# Altium footprint library ATK-2014-09-12.PcbLib: 439 footprints (part 12 of 28)
Each footprint in its own frame and in the unit in brackets; x right, y up, seen from the top. Pads: shape width x height; smd on the part's side, far side on the other; paste and mask are expansions set on the pad; w line width, h text height; cw(c..) or ccw(c..) is an arc to the next point about the centre after c.
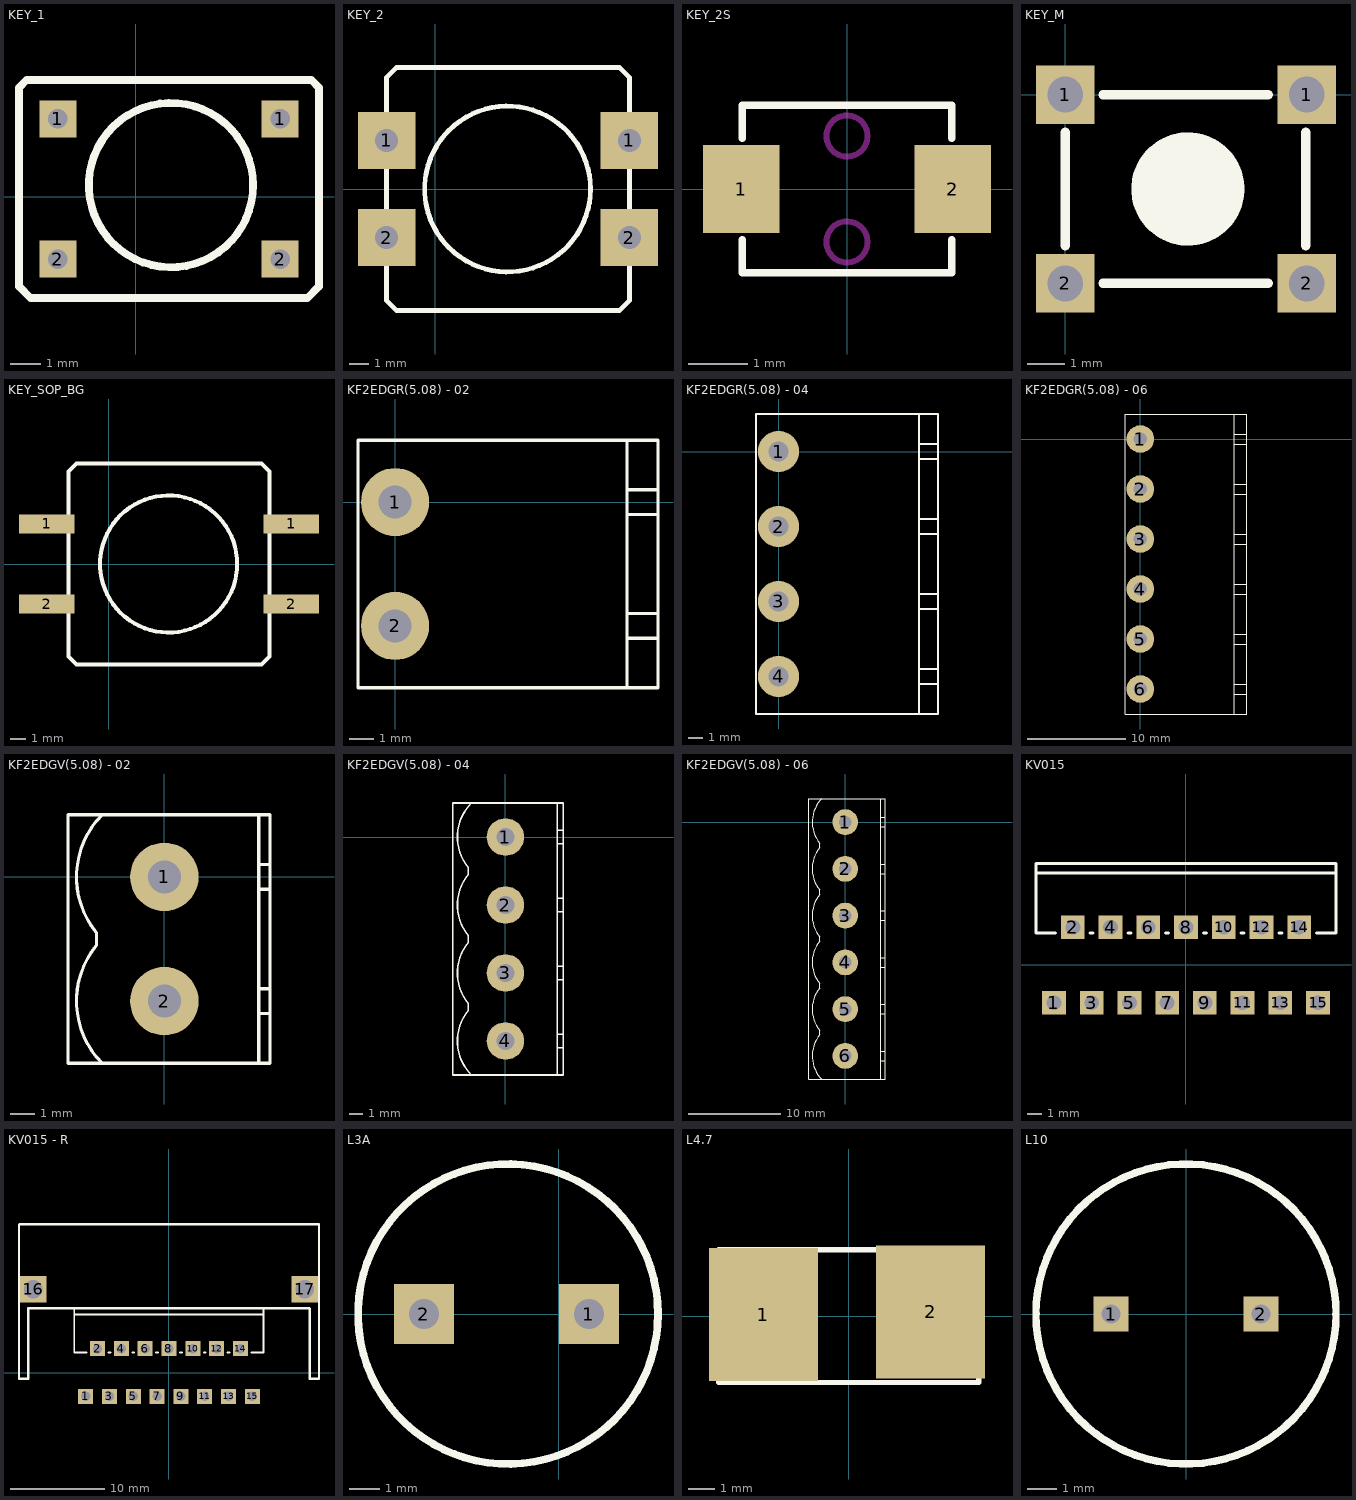
[diagram p11: the footprints below, top view; thin cyan lines are the x and y axes]

## KEY_1 [mm] "KEY?"
height 5
pads (4):
  rect 1.2x1.2 hole 0.635: 1(-2.54,2.54) 1(4.699,2.54) 2(-2.54,-2.032) 2(4.699,-2.032)
Top Overlay:
  circle w0.254: c1.143,0.381 r2.679
  lines w0.254: -3.81,3.048 -3.81,3.556 -3.556,3.81 ; -3.81,3.302 -3.81,-2.921 -3.429,-3.302 5.588,-3.302 5.969,-2.921 5.969,3.556 5.715,3.81 -3.556,3.81 ; -2.921,3.81 -3.556,3.81

## KEY_2 [mm] "KEY?"
pads (4):
  rect 3x3 hole 1.2: 1(-2.54,2.54) 1(10.16,2.54) 2(-2.54,-2.54) 2(10.16,-2.54)
Top Overlay:
  circle w0.254: c3.788,0 r4.34
  lines w0.254: 7.747,6.35 9.652,6.35 10.16,5.842 10.16,-5.842 9.652,-6.35 -2.032,-6.35 -2.54,-5.842 -2.54,5.842 -2.032,6.35 0.127,6.35 8.509,6.35

## KEY_2S [mm]
pads (2):
  rect 1.3x1.5 smd: 1(-1.8,0) 2(1.8,0)
Top Overlay:
  lines w0.127: -1.778,-0.864 -1.778,-1.422 1.778,-1.422 1.778,-0.864 ; -1.778,0.864 -1.778,1.422 1.778,1.422 1.778,0.864
Keep-Out Layer:
  circle w0.1: c0,0.9 r0.35
  circle w0.1: c0,-0.9 r0.35

## KEY_M [mil] "KEY_MID"
pads (4):
  rect 62x62 hole 38: 1(0,0) 1(255.91,0) 2(0,-200) 2(255.91,-200)
Top Overlay:
  circle w60: c130,-100 r30
  lines w10: -0.03,-160 -0.03,-40 ; 39.97,-200 215,-200 ; 39.97,0 215,0 ; 255,-160 255,-40

## KEY_SOP_BG [mm] "KEY?"
height 5
pads (4):
  rect 3.5x1.2 smd: 1(-3.937,2.54) 1(11.557,2.54) 2(-3.937,-2.54) 2(11.557,-2.54)
Top Overlay:
  circle w0.254: c3.788,0 r4.34
  lines w0.254: 7.747,6.35 9.652,6.35 10.16,5.842 10.16,-5.842 9.652,-6.35 -2.032,-6.35 -2.54,-5.842 -2.54,5.842 -2.032,6.35 0.127,6.35 8.509,6.35

## KF2EDGR(5.08) - 02 [mm] "拔插接线端子   卧式"
pads (2):
  round 2.8 hole 1.35: 1(0,0) 2(0,-5.08)
Top Overlay:
  lines w0.127: 9.525,-7.62 9.525,2.54 ; 9.525,-5.588 10.795,-5.588 ; 9.525,-4.572 10.795,-4.572 ; 9.525,-0.508 10.795,-0.508 ; 9.525,0.508 10.795,0.508 ; -1.524,-7.62 10.795,-7.62 10.795,2.54 -1.524,2.54 -1.524,-7.62

## KF2EDGR(5.08) - 04 [mm] "拔插接线端子   卧式"
pads (4):
  round 2.8 hole 1.35: 1(0,0) 2(0,-5.08) 3(0,-10.16) 4(0,-15.24)
Top Overlay:
  lines w0.127: 9.525,-17.78 9.525,2.54 ; 9.525,-15.748 10.795,-15.748 ; 9.525,-14.732 10.795,-14.732 ; 9.525,-10.668 10.795,-10.668 ; 9.525,-9.652 10.795,-9.652 ; 9.525,-5.588 10.795,-5.588 ; 9.525,-4.572 10.795,-4.572 ; 9.525,-0.508 10.795,-0.508 ; 9.525,0.508 10.795,0.508 ; -1.524,-17.78 10.795,-17.78 10.795,2.54 -1.524,2.54 -1.524,-17.78

## KF2EDGR(5.08) - 06 [mm] "拔插接线端子   卧式"
pads (6):
  round 2.8 hole 1.35: 1(0,0) 2(0,-5.08) 3(0,-10.16) 4(0,-15.24) 5(0,-20.32) 6(0,-25.4)
Top Overlay:
  lines w0.127: 9.525,-27.94 9.525,2.54 ; 9.525,-25.908 10.795,-25.908 ; 9.525,-24.892 10.795,-24.892 ; 9.525,-20.828 10.795,-20.828 ; 9.525,-19.812 10.795,-19.812 ; 9.525,-15.748 10.795,-15.748 ; 9.525,-14.732 10.795,-14.732 ; 9.525,-10.668 10.795,-10.668 ; 9.525,-9.652 10.795,-9.652 ; 9.525,-5.588 10.795,-5.588 ; 9.525,-4.572 10.795,-4.572 ; 9.525,-0.508 10.795,-0.508 ; 9.525,0.508 10.795,0.508 ; -1.524,-27.94 10.795,-27.94 10.795,2.54 -1.524,2.54 -1.524,-27.94

## KF2EDGV(5.08) - 02 [mm] "拔插接线端子   立式"
pads (2):
  round 2.8 hole 1.35: 1(0,0) 2(0,-5.08)
Top Overlay:
  lines w0.127: -2.54,-7.62 cw(c0,-5.08) -2.78,-2.805 -2.78,-2.275 cw(c0,0) -2.54,2.54 ; 3.861,-7.62 3.861,2.54 4.318,2.54 4.318,-7.62 -3.937,-7.62 -3.937,2.54 3.937,2.54 ; 3.861,-5.588 4.318,-5.588 ; 3.861,-4.572 4.318,-4.572 ; 3.861,-0.508 4.318,-0.508 ; 3.861,0.508 4.318,0.508

## KF2EDGV(5.08) - 04 [mm] "拔插接线端子   立式"
pads (4):
  round 2.8 hole 1.35: 1(0,0) 2(0,-5.08) 3(0,-10.16) 4(0,-15.24)
Top Overlay:
  lines w0.127: -2.54,-17.78 cw(c0,-15.24) -2.78,-12.965 -2.78,-12.435 cw(c0,-10.16) -2.78,-7.885 -2.78,-7.355 cw(c0,-5.08) -2.78,-2.805 -2.78,-2.275 cw(c0,0) -2.54,2.54 ; 3.861,-17.729 3.861,2.54 4.318,2.54 4.318,-17.78 -3.937,-17.78 -3.937,2.54 3.937,2.54 ; 3.861,-15.748 4.318,-15.748 ; 3.861,-14.732 4.318,-14.732 ; 3.861,-10.668 4.318,-10.668 ; 3.861,-9.652 4.318,-9.652 ; 3.861,-5.588 4.318,-5.588 ; 3.861,-4.572 4.318,-4.572 ; 3.861,-0.508 4.318,-0.508 ; 3.861,0.508 4.318,0.508

## KF2EDGV(5.08) - 06 [mm] "拔插接线端子   立式"
pads (6):
  round 2.8 hole 1.35: 1(0,0) 2(0,-5.08) 3(0,-10.16) 4(0,-15.24) 5(0,-20.32) 6(0,-25.4)
Top Overlay:
  lines w0.127: -2.54,-27.94 cw(c0,-25.4) -2.78,-23.125 -2.78,-22.595 cw(c0,-20.32) -2.78,-18.045 -2.78,-17.515 cw(c0,-15.24) -2.78,-12.965 -2.78,-12.435 cw(c0,-10.16) -2.78,-7.885 -2.78,-7.355 cw(c0,-5.08) -2.78,-2.805 -2.78,-2.275 cw(c0,0) -2.54,2.54 ; 3.861,-25.908 4.318,-25.908 ; 3.861,-24.892 4.318,-24.892 ; 3.861,-20.828 4.318,-20.828 ; 3.861,-19.812 4.318,-19.812 ; 3.861,-15.748 4.318,-15.748 ; 3.861,-14.732 4.318,-14.732 ; 3.861,-10.668 4.318,-10.668 ; 3.861,-9.652 4.318,-9.652 ; 3.861,-5.588 4.318,-5.588 ; 3.861,-4.572 4.318,-4.572 ; 3.861,-0.508 4.318,-0.508 ; 3.861,0.508 4.318,0.508 ; 3.937,-27.94 -3.937,-27.94 -3.937,2.54 3.937,2.54 ; 3.861,-27.94 4.318,-27.94 4.318,2.54 3.861,2.54 3.861,-27.94

## KV015 [mm] "TO, Thru-Hole, Vertical, Heatsink Mounted; 15 Bent Staggered Leads; Pitch 1.27 mm"
height 21
pads (15):
  rect 1.6x1.6 hole 1: 1(-8.89,-2.54) 2(-7.62,2.54) 3(-6.35,-2.54) 4(-5.08,2.54) 5(-3.81,-2.54) 6(-2.54,2.54) 7(-1.27,-2.54) 8(0,2.54) 9(1.27,-2.54) 10(2.54,2.54) 11(3.81,-2.54) 12(5.08,2.54) 13(6.35,-2.54) 14(7.62,2.54) 15(8.89,-2.54)
Top Overlay:
  lines w0.2: -10.1,6.19 10.1,6.19 ; -8.8,2.14 -10.1,2.14 -10.1,6.84 10.1,6.84 10.1,2.14 8.8,2.14 ; -6.45,2.14 -6.25,2.14 ; -3.91,2.14 -3.71,2.14 ; -1.37,2.14 -1.17,2.14 ; 1.17,2.14 1.37,2.14 ; 3.71,2.14 3.91,2.14 ; 6.25,2.14 6.45,2.14

## KV015 - R [mm] "TO, Thru-Hole, Vertical, Heatsink Mounted; 15 Bent Staggered Leads; Pitch 1.27 mm"
height 21
pads (17):
  rect 1.6x1.6 hole 1: 1(-8.89,-2.54) 2(-7.62,2.54) 3(-6.35,-2.54) 4(-5.08,2.54) 5(-3.81,-2.54) 6(-2.54,2.54) 7(-1.27,-2.54) 8(0,2.54) 9(1.27,-2.54) 10(2.54,2.54) 11(3.81,-2.54) 12(5.08,2.54) 13(6.35,-2.54) 14(7.62,2.54) 15(8.89,-2.54)
  rect 2.8x2.8 hole 2: 16(-14.478,8.89) 17(14.478,8.89)
Top Overlay:
  lines w0.2: -10.1,6.19 10.1,6.19 ; -8.8,2.14 -10.1,2.14 -10.1,6.84 10.1,6.84 10.1,2.14 8.8,2.14 ; -6.45,2.14 -6.25,2.14 ; -3.91,2.14 -3.71,2.14 ; -1.37,2.14 -1.17,2.14 ; 1.17,2.14 1.37,2.14 ; 3.71,2.14 3.91,2.14 ; 6.25,2.14 6.45,2.14
  lines w0.254: -16,15.779 -16,10.16 -16,6.84 -16,-0.66 -15,-0.66 -15,6.858 14.968,6.858 15.002,6.824 15.002,-0.66 16.002,-0.66 16.002,6.84 ; -15.953,15.826 -15.826,15.826 16.002,15.826 16.002,6.604

## L3A [mm] "10*13"
height 13
pads (2):
  rect 2x2 hole 1: 1(1,0) 2(-4.5,0)
Top Overlay:
  circle w0.254: c-1.7,0 r5

## L4.7 [mm]
pads (2):
  rect 4.1x5 smd: 1(-3.216,0.054) 2(3.084,0.154)
Top Overlay:
  lines w0.2: -4.9,-2.5 4.9,-2.5 4.9,2.5 -4.9,2.5 -4.9,0 -4.9,-2.5

## L10 [mm] "10mH"
height 15
pads (2):
  rect 1.2x1.2 hole 0.635: 1(-2.54,0) 2(2.54,0)
Top Overlay:
  circle w0.254: c0,0 r5.08